# Altium integrated library TI Logic Clock Clock Support.IntLib: 27 symbols
Pins are listed as number, name and electrical type; pins without a type are passive.

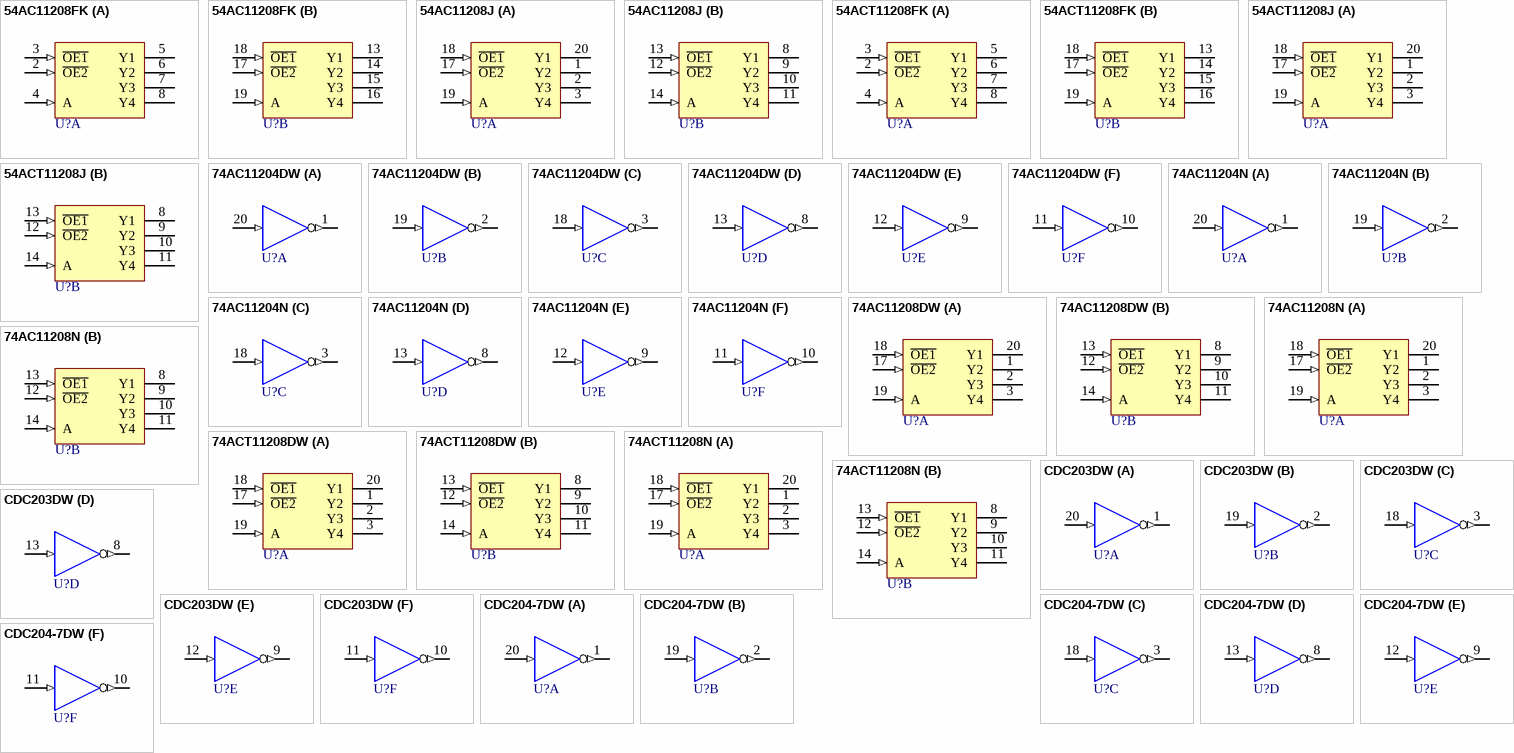
[diagram p0: symbols 54AC11208FK to CDC204-7DW]

## 54AC11208FK
designator U?
Dual 1-Line to 4-Line Clock Driver with 3-State Outputs; Published: 8-Jun-2000; LatestRevisionDate: 17-Jul-2002; LatestRevisionNote: Re-released for DXP Platform.; DatasheetVersion: Mar-1990; PackageVersion: 1998; PackageReference: FK020D; Publisher: Altium Limited; PackageDescription: Leadless Chip Carrier; 20 Terminals; Body 8.9 x 8.9 mm; ComponentLink1Description: Manufacturer Link; ComponentLink1URL: http://www.ti.com/
footprint FK020D (Leadless Chip Carrier; 20 Terminals; Body 8.9 x 8.9 mm)
signal-integrity model 54AC11208FK
pins on every part: 1 VCC (power) hidden to VCC, 9 GND (power) hidden to GND, 10 GND (power) hidden to GND, 11 GND (power) hidden to GND, 12 GND (power) hidden to GND, 20 VCC (power) hidden to VCC
part A pins: 2 ~{OE2} (in), 3 ~{OE1} (in), 4 A (in), 5 Y1 (hiz), 6 Y2 (hiz), 7 Y3 (hiz), 8 Y4 (hiz)
part B pins: 13 Y1 (hiz), 14 Y2 (hiz), 15 Y3 (hiz), 16 Y4 (hiz), 17 ~{OE2} (in), 18 ~{OE1} (in), 19 A (in)

## 54AC11208J
designator U?
Dual 1-Line to 4-Line Clock Driver with 3-State Outputs; Published: 8-Jun-2000; LatestRevisionDate: 06-Jun-2005; LatestRevisionNote: Stylized 3D Model Added.; DatasheetVersion: Mar-1990; PackageVersion: Jun-1999; PackageReference: J020D; Publisher: Altium Limited; PackageDescription: DIP; 20 Leads; Row Spacing 7.62 mm; Pitch 2.54 mm; ComponentLink1Description: Manufacturer Link; ComponentLink1URL: http://www.ti.com/
footprint J020D (DIP; 20 Leads; Row Spacing 7.62 mm; Pitch 2.54 mm)
3D model J020 (DIP; 20 Leads; Row Spacing 7.62 mm; Pitch 2.54 mm)
signal-integrity model 54AC11208J
pins on every part: 4 GND (power) hidden to GND, 5 GND (power) hidden to GND, 6 GND (power) hidden to GND, 7 GND (power) hidden to GND, 15 VCC (power) hidden to VCC, 16 VCC (power) hidden to VCC
part A pins: 1 Y2 (hiz), 2 Y3 (hiz), 3 Y4 (hiz), 17 ~{OE2} (in), 18 ~{OE1} (in), 19 A (in), 20 Y1 (hiz)
part B pins: 8 Y1 (hiz), 9 Y2 (hiz), 10 Y3 (hiz), 11 Y4 (hiz), 12 ~{OE2} (in), 13 ~{OE1} (in), 14 A (in)

## 54ACT11208FK
designator U?
Dual 1-Line to 4-Line Clock Driver with 3-State Outputs; Published: 8-Jun-2000; LatestRevisionDate: 17-Jul-2002; LatestRevisionNote: Re-released for DXP Platform.; DatasheetVersion: Apr-1990; PackageVersion: 1998; PackageReference: FK020D; Publisher: Altium Limited; PackageDescription: Leadless Chip Carrier; 20 Terminals; Body 8.9 x 8.9 mm; ComponentLink1Description: Manufacturer Link; ComponentLink1URL: http://www.ti.com/
footprint FK020D (Leadless Chip Carrier; 20 Terminals; Body 8.9 x 8.9 mm)
signal-integrity model 54ACT11208FK
pins on every part: 1 VCC (power) hidden to VCC, 9 GND (power) hidden to GND, 10 GND (power) hidden to GND, 11 GND (power) hidden to GND, 12 GND (power) hidden to GND, 20 VCC (power) hidden to VCC
part A pins: 2 ~{OE2} (in), 3 ~{OE1} (in), 4 A (in), 5 Y1 (hiz), 6 Y2 (hiz), 7 Y3 (hiz), 8 Y4 (hiz)
part B pins: 13 Y1 (hiz), 14 Y2 (hiz), 15 Y3 (hiz), 16 Y4 (hiz), 17 ~{OE2} (in), 18 ~{OE1} (in), 19 A (in)

## 54ACT11208J
designator U?
Dual 1-Line to 4-Line Clock Driver with 3-State Outputs; Published: 8-Jun-2000; LatestRevisionDate: 06-Jun-2005; LatestRevisionNote: Stylized 3D Model Added.; DatasheetVersion: Apr-1990; PackageVersion: Jun-1999; PackageReference: J020D; Publisher: Altium Limited; PackageDescription: DIP; 20 Leads; Row Spacing 7.62 mm; Pitch 2.54 mm; ComponentLink1Description: Manufacturer Link; ComponentLink1URL: http://www.ti.com/
footprint J020D (DIP; 20 Leads; Row Spacing 7.62 mm; Pitch 2.54 mm)
3D model J020 (DIP; 20 Leads; Row Spacing 7.62 mm; Pitch 2.54 mm)
signal-integrity model 54ACT11208J
pins on every part: 4 GND (power) hidden to GND, 5 GND (power) hidden to GND, 6 GND (power) hidden to GND, 7 GND (power) hidden to GND, 15 VCC (power) hidden to VCC, 16 VCC (power) hidden to VCC
part A pins: 1 Y2 (hiz), 2 Y3 (hiz), 3 Y4 (hiz), 17 ~{OE2} (in), 18 ~{OE1} (in), 19 A (in), 20 Y1 (hiz)
part B pins: 8 Y1 (hiz), 9 Y2 (hiz), 10 Y3 (hiz), 11 Y4 (hiz), 12 ~{OE2} (in), 13 ~{OE1} (in), 14 A (in)

## 74AC11204DW
designator U?
Hex Inverter/Clock Driver; ComponentAvailability: Obsolete; Published: 8-Jun-2000; LatestRevisionDate: 13-Apr-2006; LatestRevisionNote: IPC-7351 Footprint Added.; DatasheetVersion: Oct-1989; PackageVersion: Mar-2000; PackageReference: DW020; Publisher: Altium Limited; PackageDescription: 20-Pin Plastic Small Outline Integrated Circuit 1.27 mm Pitch; Code_JEDEC: MS-013; Code_IPC: SOIC127P1030-20; ComponentLink1Description: Manufacturer Link; ComponentLink1URL: http://www.ti.com/; ComponentLink2Description: Discontinuation Notice; ComponentLink2URL: http://focus.ti.com/docs/prod/folders/print/74ac11204.html
footprint DW020_N (SOIC, 20-Leads, Body 12.8x7.5mm, Pitch 1.27mm, IPC Medium Density)
footprint DW020_L (SOIC, 20-Leads, Body 12.8x7.5mm, Pitch 1.27mm, IPC High Density)
footprint DW020_M (SOIC, 20-Leads, Body 12.8x7.5mm, Pitch 1.27mm, IPC Low Density)
3D model DW020 (20-Pin Plastic Small Outline Integrated Circuit 1.27 mm Pitch)
signal-integrity model 74AC11204DW
pins on every part: 4 GND (power) hidden to GND, 5 GND (power) hidden to GND, 6 GND (power) hidden to GND, 7 GND (power) hidden to GND, 15 VCC (power) hidden to VCC, 16 VCC (power) hidden to VCC
part A pins: 1 Y (out), 20 A (in)
part B pins: 2 Y (out), 19 A (in)
part C pins: 3 Y (out), 18 A (in)
part D pins: 8 Y (out), 13 A (in)
part E pins: 9 Y (out), 12 A (in)
part F pins: 10 Y (out), 11 A (in)

## 74AC11204N
designator U?
Hex Inverter/Clock Driver; ComponentAvailability: Obsolete; Published: 8-Jun-2000; LatestRevisionDate: 06-Jun-2005; LatestRevisionNote: Stylized 3D Model Added.; DatasheetVersion: Oct-1989; PackageVersion: Oct-1995; PackageReference: N020D; Publisher: Altium Limited; PackageDescription: DIP; 20 Leads; Row Spacing 7.62 mm; Pitch 2.54 mm; ComponentLink1Description: Manufacturer Link; ComponentLink1URL: http://www.ti.com/; ComponentLink2Description: Discontinuation Notice; ComponentLink2URL: http://focus.ti.com/docs/prod/folders/print/74ac11204.html
footprint N020D (DIP; 20 Leads; Row Spacing 7.62 mm; Pitch 2.54 mm)
3D model J020 (DIP; 20 Leads; Row Spacing 7.62 mm; Pitch 2.54 mm)
signal-integrity model 74AC11204N
pins on every part: 4 GND (power) hidden to GND, 5 GND (power) hidden to GND, 6 GND (power) hidden to GND, 7 GND (power) hidden to GND, 15 VCC (power) hidden to VCC, 16 VCC (power) hidden to VCC
part A pins: 1 Y (out), 20 A (in)
part B pins: 2 Y (out), 19 A (in)
part C pins: 3 Y (out), 18 A (in)
part D pins: 8 Y (out), 13 A (in)
part E pins: 9 Y (out), 12 A (in)
part F pins: 10 Y (out), 11 A (in)

## 74AC11208DW
designator U?
Dual 1-Line to 4-Line Clock Driver with 3-State Outputs; ComponentAvailability: Obsolete; Published: 8-Jun-2000; LatestRevisionDate: 13-Apr-2006; LatestRevisionNote: IPC-7351 Footprint Added.; DatasheetVersion: Mar-1990; PackageVersion: Mar-2000; PackageReference: DW020; Publisher: Altium Limited; PackageDescription: 20-Pin Plastic Small Outline Integrated Circuit 1.27 mm Pitch; Code_JEDEC: MS-013; Code_IPC: SOIC127P1030-20; ComponentLink1Description: Manufacturer Link; ComponentLink1URL: http://www.ti.com/; ComponentLink2Description: Discontinuation Notice; ComponentLink2URL: http://focus.ti.com/docs/prod/folders/print/74ac11208.html
footprint DW020_N (SOIC, 20-Leads, Body 12.8x7.5mm, Pitch 1.27mm, IPC Medium Density)
footprint DW020_L (SOIC, 20-Leads, Body 12.8x7.5mm, Pitch 1.27mm, IPC High Density)
footprint DW020_M (SOIC, 20-Leads, Body 12.8x7.5mm, Pitch 1.27mm, IPC Low Density)
3D model DW020 (20-Pin Plastic Small Outline Integrated Circuit 1.27 mm Pitch)
signal-integrity model 74AC11208DW
pins on every part: 4 GND (power) hidden to GND, 5 GND (power) hidden to GND, 6 GND (power) hidden to GND, 7 GND (power) hidden to GND, 15 VCC (power) hidden to VCC, 16 VCC (power) hidden to VCC
part A pins: 1 Y2 (hiz), 2 Y3 (hiz), 3 Y4 (hiz), 17 ~{OE2} (in), 18 ~{OE1} (in), 19 A (in), 20 Y1 (hiz)
part B pins: 8 Y1 (hiz), 9 Y2 (hiz), 10 Y3 (hiz), 11 Y4 (hiz), 12 ~{OE2} (in), 13 ~{OE1} (in), 14 A (in)

## 74AC11208N
designator U?
Dual 1-Line to 4-Line Clock Driver with 3-State Outputs; ComponentAvailability: Obsolete; Published: 8-Jun-2000; LatestRevisionDate: 06-Jun-2005; LatestRevisionNote: Stylized 3D Model Added.; DatasheetVersion: Mar-1990; PackageVersion: Oct-1995; PackageReference: N020D; Publisher: Altium Limited; PackageDescription: DIP; 20 Leads; Row Spacing 7.62 mm; Pitch 2.54 mm; ComponentLink1Description: Manufacturer Link; ComponentLink1URL: http://www.ti.com/; ComponentLink2Description: Discontinuation Notice; ComponentLink2URL: http://focus.ti.com/docs/prod/folders/print/74ac11208.html
footprint N020D (DIP; 20 Leads; Row Spacing 7.62 mm; Pitch 2.54 mm)
3D model J020 (DIP; 20 Leads; Row Spacing 7.62 mm; Pitch 2.54 mm)
signal-integrity model 74AC11208N
pins on every part: 4 GND (power) hidden to GND, 5 GND (power) hidden to GND, 6 GND (power) hidden to GND, 7 GND (power) hidden to GND, 15 VCC (power) hidden to VCC, 16 VCC (power) hidden to VCC
part A pins: 1 Y2 (hiz), 2 Y3 (hiz), 3 Y4 (hiz), 17 ~{OE2} (in), 18 ~{OE1} (in), 19 A (in), 20 Y1 (hiz)
part B pins: 8 Y1 (hiz), 9 Y2 (hiz), 10 Y3 (hiz), 11 Y4 (hiz), 12 ~{OE2} (in), 13 ~{OE1} (in), 14 A (in)

## 74ACT11208DW
designator U?
Dual 1-Line to 4-Line Clock Driver with 3-State Outputs; ComponentAvailability: Obsolete; Published: 8-Jun-2000; LatestRevisionDate: 13-Apr-2006; LatestRevisionNote: IPC-7351 Footprint Added.; DatasheetVersion: Apr-1990; PackageVersion: Mar-2000; PackageReference: DW020; Publisher: Altium Limited; PackageDescription: 20-Pin Plastic Small Outline Integrated Circuit 1.27 mm Pitch; Code_JEDEC: MS-013; Code_IPC: SOIC127P1030-20; ComponentLink1Description: Manufacturer Link; ComponentLink1URL: http://www.ti.com/; ComponentLink2Description: Discontinuation Notice; ComponentLink2URL: http://focus.ti.com/docs/prod/folders/print/74act11208.html
footprint DW020_N (SOIC, 20-Leads, Body 12.8x7.5mm, Pitch 1.27mm, IPC Medium Density)
footprint DW020_L (SOIC, 20-Leads, Body 12.8x7.5mm, Pitch 1.27mm, IPC High Density)
footprint DW020_M (SOIC, 20-Leads, Body 12.8x7.5mm, Pitch 1.27mm, IPC Low Density)
3D model DW020 (20-Pin Plastic Small Outline Integrated Circuit 1.27 mm Pitch)
signal-integrity model 74ACT11208DW
pins on every part: 4 GND (power) hidden to GND, 5 GND (power) hidden to GND, 6 GND (power) hidden to GND, 7 GND (power) hidden to GND, 15 VCC (power) hidden to VCC, 16 VCC (power) hidden to VCC
part A pins: 1 Y2 (hiz), 2 Y3 (hiz), 3 Y4 (hiz), 17 ~{OE2} (in), 18 ~{OE1} (in), 19 A (in), 20 Y1 (hiz)
part B pins: 8 Y1 (hiz), 9 Y2 (hiz), 10 Y3 (hiz), 11 Y4 (hiz), 12 ~{OE2} (in), 13 ~{OE1} (in), 14 A (in)

## 74ACT11208N
designator U?
Dual 1-Line to 4-Line Clock Driver with 3-State Outputs; ComponentAvailability: Obsolete; Published: 8-Jun-2000; LatestRevisionDate: 06-Jun-2005; LatestRevisionNote: Stylized 3D Model Added.; DatasheetVersion: Apr-1990; PackageVersion: Oct-1995; PackageReference: N020D; Publisher: Altium Limited; PackageDescription: DIP; 20 Leads; Row Spacing 7.62 mm; Pitch 2.54 mm; ComponentLink1Description: Manufacturer Link; ComponentLink1URL: http://www.ti.com/; ComponentLink2Description: Discontinuation Notice; ComponentLink2URL: http://focus.ti.com/docs/prod/folders/print/74act11208.html
footprint N020D (DIP; 20 Leads; Row Spacing 7.62 mm; Pitch 2.54 mm)
3D model J020 (DIP; 20 Leads; Row Spacing 7.62 mm; Pitch 2.54 mm)
signal-integrity model 74ACT11208N
pins on every part: 4 GND (power) hidden to GND, 5 GND (power) hidden to GND, 6 GND (power) hidden to GND, 7 GND (power) hidden to GND, 15 VCC (power) hidden to VCC, 16 VCC (power) hidden to VCC
part A pins: 1 Y2 (hiz), 2 Y3 (hiz), 3 Y4 (hiz), 17 ~{OE2} (in), 18 ~{OE1} (in), 19 A (in), 20 Y1 (hiz)
part B pins: 8 Y1 (hiz), 9 Y2 (hiz), 10 Y3 (hiz), 11 Y4 (hiz), 12 ~{OE2} (in), 13 ~{OE1} (in), 14 A (in)

## CDC203DW
designator U?
3.3-V Hex Inverter/Clock Driver; Note: Pins 14 and 17 are not connected; Published: 8-Jun-2000; LatestRevisionDate: 13-Apr-2006; LatestRevisionNote: IPC-7351 Footprint Added.; DatasheetVersion: Nov-1995; PackageVersion: Mar-2000; PackageReference: DW020; Publisher: Altium Limited; PackageDescription: 20-Pin Plastic Small Outline Integrated Circuit 1.27 mm Pitch; Code_JEDEC: MS-013; Code_IPC: SOIC127P1030-20; ComponentLink1Description: Manufacturer Link; ComponentLink1URL: http://www.ti.com/; ComponentLink2Description: Datasheet; ComponentLink2URL: http://www-s.ti.com/sc/ds/cdc203.pdf
footprint DW020_N (SOIC, 20-Leads, Body 12.8x7.5mm, Pitch 1.27mm, IPC Medium Density)
footprint DW020_L (SOIC, 20-Leads, Body 12.8x7.5mm, Pitch 1.27mm, IPC High Density)
footprint DW020_M (SOIC, 20-Leads, Body 12.8x7.5mm, Pitch 1.27mm, IPC Low Density)
3D model DW020 (20-Pin Plastic Small Outline Integrated Circuit 1.27 mm Pitch)
pins on every part: 4 GND (power) hidden to GND, 5 GND (power) hidden to GND, 6 GND (power) hidden to GND, 7 GND (power) hidden to GND, 15 VCC (power) hidden to VCC, 16 VCC (power) hidden to VCC
part A pins: 1 Y (out), 20 A (in)
part B pins: 2 Y (out), 19 A (in)
part C pins: 3 Y (out), 18 A (in)
part D pins: 8 Y (out), 13 A (in)
part E pins: 9 Y (out), 12 A (in)
part F pins: 10 Y (out), 11 A (in)

## CDC204-7DW
designator U?
Hex Inverter/Clock Driver; Note: Pins 14 and 17 are not connected; ComponentAvailability: Obsolete; Published: 8-Jun-2000; LatestRevisionDate: 13-Apr-2006; LatestRevisionNote: IPC-7351 Footprint Added.; DatasheetVersion: May-1997; PackageVersion: Mar-2000; PackageReference: DW020; Publisher: Altium Limited; PackageDescription: 20-Pin Plastic Small Outline Integrated Circuit 1.27 mm Pitch; Code_JEDEC: MS-013; Code_IPC: SOIC127P1030-20; ComponentLink1Description: Manufacturer Link; ComponentLink1URL: http://www.ti.com/; ComponentLink2Description: Discontinuation Notice; ComponentLink2URL: http://focus.ti.com/docs/prod/folders/print/cdc204-7.html
footprint DW020_N (SOIC, 20-Leads, Body 12.8x7.5mm, Pitch 1.27mm, IPC Medium Density)
footprint DW020_L (SOIC, 20-Leads, Body 12.8x7.5mm, Pitch 1.27mm, IPC High Density)
footprint DW020_M (SOIC, 20-Leads, Body 12.8x7.5mm, Pitch 1.27mm, IPC Low Density)
3D model DW020 (20-Pin Plastic Small Outline Integrated Circuit 1.27 mm Pitch)
pins on every part: 4 GND (power) hidden to GND, 5 GND (power) hidden to GND, 6 GND (power) hidden to GND, 7 GND (power) hidden to GND, 15 VCC (power) hidden to VCC, 16 VCC (power) hidden to VCC
part A pins: 1 Y (out), 20 A (in)
part B pins: 2 Y (out), 19 A (in)
part C pins: 3 Y (out), 18 A (in)
part D pins: 8 Y (out), 13 A (in)
part E pins: 9 Y (out), 12 A (in)
part F pins: 10 Y (out), 11 A (in)

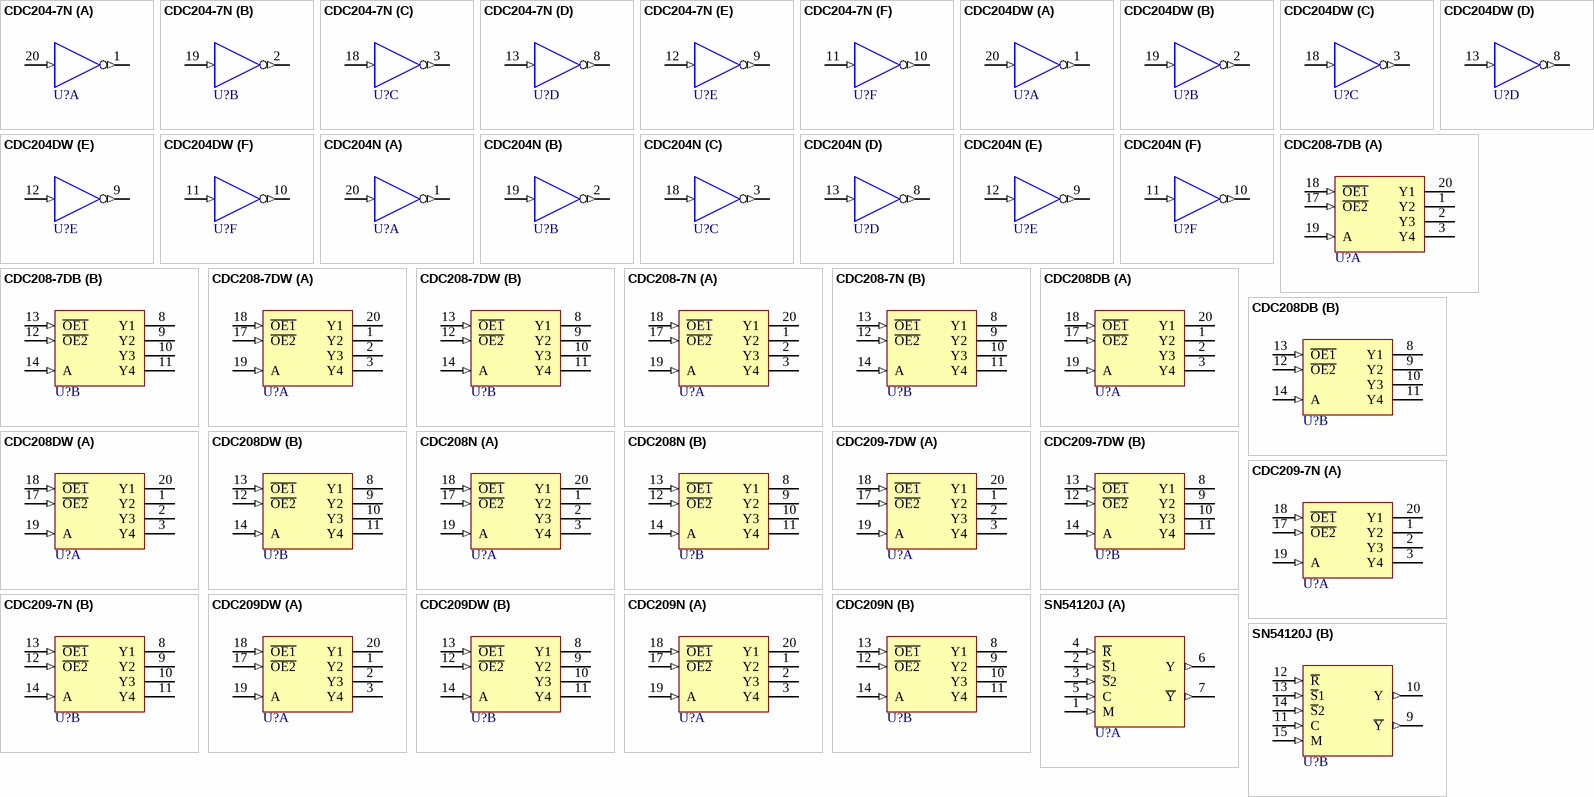
[diagram p1: symbols CDC204-7N to SN54120J]

## CDC204-7N
designator U?
Hex Inverter/Clock Driver; Note: Pins 14 and 17 are not connected; Published: 8-Jun-2000; LatestRevisionDate: 06-Jun-2005; LatestRevisionNote: Stylized 3D Model Added.; DatasheetVersion: May-1997; PackageVersion: Oct-1995; PackageReference: N020C; Publisher: Altium Limited; PackageDescription: DIP; 20 Leads; Row Spacing 7.62 mm; Pitch 2.54 mm; ComponentLink1Description: Manufacturer Link; ComponentLink1URL: http://www.ti.com/
footprint N020C (DIP; 20 Leads; Row Spacing 7.62 mm; Pitch 2.54 mm)
3D model J020 (DIP; 20 Leads; Row Spacing 7.62 mm; Pitch 2.54 mm)
pins on every part: 4 GND (power) hidden to GND, 5 GND (power) hidden to GND, 6 GND (power) hidden to GND, 7 GND (power) hidden to GND, 15 VCC (power) hidden to VCC, 16 VCC (power) hidden to VCC
part A pins: 1 Y (out), 20 A (in)
part B pins: 2 Y (out), 19 A (in)
part C pins: 3 Y (out), 18 A (in)
part D pins: 8 Y (out), 13 A (in)
part E pins: 9 Y (out), 12 A (in)
part F pins: 10 Y (out), 11 A (in)

## CDC204DW
designator U?
Hex Inverter/Clock Driver; Note: Pins 14 and 17 are not connected; Published: 8-Jun-2000; LatestRevisionDate: 13-Apr-2006; LatestRevisionNote: IPC-7351 Footprint Added.; DatasheetVersion: May-1997; PackageVersion: Mar-2000; PackageReference: DW020; Publisher: Altium Limited; PackageDescription: 20-Pin Plastic Small Outline Integrated Circuit 1.27 mm Pitch; Code_JEDEC: MS-013; Code_IPC: SOIC127P1030-20; ComponentLink1Description: Manufacturer Link; ComponentLink1URL: http://www.ti.com/; ComponentLink2Description: Datasheet; ComponentLink2URL: http://www-s.ti.com/sc/ds/cdc204.pdf
footprint DW020_N (SOIC, 20-Leads, Body 12.8x7.5mm, Pitch 1.27mm, IPC Medium Density)
footprint DW020_L (SOIC, 20-Leads, Body 12.8x7.5mm, Pitch 1.27mm, IPC High Density)
footprint DW020_M (SOIC, 20-Leads, Body 12.8x7.5mm, Pitch 1.27mm, IPC Low Density)
3D model DW020 (20-Pin Plastic Small Outline Integrated Circuit 1.27 mm Pitch)
pins on every part: 4 GND (power) hidden to GND, 5 GND (power) hidden to GND, 6 GND (power) hidden to GND, 7 GND (power) hidden to GND, 15 VCC (power) hidden to VCC, 16 VCC (power) hidden to VCC
part A pins: 1 Y (out), 20 A (in)
part B pins: 2 Y (out), 19 A (in)
part C pins: 3 Y (out), 18 A (in)
part D pins: 8 Y (out), 13 A (in)
part E pins: 9 Y (out), 12 A (in)
part F pins: 10 Y (out), 11 A (in)

## CDC204N
designator U?
Hex Inverter/Clock Driver; Note: Pins 14 and 17 are not connected; ComponentAvailability: Obsolete; Published: 8-Jun-2000; LatestRevisionDate: 06-Jun-2005; LatestRevisionNote: Stylized 3D Model Added.; DatasheetVersion: May-1997; PackageVersion: Oct-1995; PackageReference: N020C; Publisher: Altium Limited; PackageDescription: DIP; 20 Leads; Row Spacing 7.62 mm; Pitch 2.54 mm; ComponentLink1Description: Manufacturer Link; ComponentLink1URL: http://www.ti.com/; ComponentLink2Description: Datasheet; ComponentLink2URL: http://www-s.ti.com/sc/ds/cdc204.pdf
footprint N020C (DIP; 20 Leads; Row Spacing 7.62 mm; Pitch 2.54 mm)
3D model J020 (DIP; 20 Leads; Row Spacing 7.62 mm; Pitch 2.54 mm)
pins on every part: 4 GND (power) hidden to GND, 5 GND (power) hidden to GND, 6 GND (power) hidden to GND, 7 GND (power) hidden to GND, 15 VCC (power) hidden to VCC, 16 VCC (power) hidden to VCC
part A pins: 1 Y (out), 20 A (in)
part B pins: 2 Y (out), 19 A (in)
part C pins: 3 Y (out), 18 A (in)
part D pins: 8 Y (out), 13 A (in)
part E pins: 9 Y (out), 12 A (in)
part F pins: 10 Y (out), 11 A (in)

## CDC208-7DB
designator U?
Dual 1-Line to 4-Line Clock Driver with 3-State Outputs; Published: 8-Jun-2000; LatestRevisionDate: 06-Jun-2005; LatestRevisionNote: Stylized 3D Model Added.; DatasheetVersion: May-1997; PackageVersion: May-1999; PackageReference: DB020; Publisher: Altium Limited; PackageDescription: SSOP, Plastic; 20 Leads; Body Width 5.3 mm; Pitch 0.65 mm; Code_JEDEC: MO-150-AE; ComponentLink1Description: Manufacturer Link; ComponentLink1URL: http://www.ti.com/
footprint DB020 (SSOP, Plastic; 20 Leads; Body Width 5.3 mm; Pitch 0.65 mm)
3D model DB020 (SSOP, Plastic; 20 Leads; Body Width 5.3 mm; Pitch 0.65 mm)
pins on every part: 4 GND (power) hidden to GND, 5 GND (power) hidden to GND, 6 GND (power) hidden to GND, 7 GND (power) hidden to GND, 15 VCC (power) hidden to VCC, 16 VCC (power) hidden to VCC
part A pins: 1 Y2 (hiz), 2 Y3 (hiz), 3 Y4 (hiz), 17 ~{OE2} (in), 18 ~{OE1} (in), 19 A (in), 20 Y1 (hiz)
part B pins: 8 Y1 (hiz), 9 Y2 (hiz), 10 Y3 (hiz), 11 Y4 (hiz), 12 ~{OE2} (in), 13 ~{OE1} (in), 14 A (in)

## CDC208-7DW
designator U?
Dual 1-Line to 4-Line Clock Driver with 3-State Outputs; ComponentAvailability: Obsolete; Published: 8-Jun-2000; LatestRevisionDate: 13-Apr-2006; LatestRevisionNote: IPC-7351 Footprint Added.; DatasheetVersion: May-1997; PackageVersion: Mar-2000; PackageReference: DW020; Publisher: Altium Limited; PackageDescription: 20-Pin Plastic Small Outline Integrated Circuit 1.27 mm Pitch; Code_JEDEC: MS-013; Code_IPC: SOIC127P1030-20; ComponentLink1Description: Manufacturer Link; ComponentLink1URL: http://www.ti.com/; ComponentLink2Description: Discontinuation Notice; ComponentLink2URL: http://focus.ti.com/docs/prod/folders/print/cdc208-7.html
footprint DW020_N (SOIC, 20-Leads, Body 12.8x7.5mm, Pitch 1.27mm, IPC Medium Density)
footprint DW020_L (SOIC, 20-Leads, Body 12.8x7.5mm, Pitch 1.27mm, IPC High Density)
footprint DW020_M (SOIC, 20-Leads, Body 12.8x7.5mm, Pitch 1.27mm, IPC Low Density)
3D model DW020 (20-Pin Plastic Small Outline Integrated Circuit 1.27 mm Pitch)
pins on every part: 4 GND (power) hidden to GND, 5 GND (power) hidden to GND, 6 GND (power) hidden to GND, 7 GND (power) hidden to GND, 15 VCC (power) hidden to VCC, 16 VCC (power) hidden to VCC
part A pins: 1 Y2 (hiz), 2 Y3 (hiz), 3 Y4 (hiz), 17 ~{OE2} (in), 18 ~{OE1} (in), 19 A (in), 20 Y1 (hiz)
part B pins: 8 Y1 (hiz), 9 Y2 (hiz), 10 Y3 (hiz), 11 Y4 (hiz), 12 ~{OE2} (in), 13 ~{OE1} (in), 14 A (in)

## CDC208-7N
designator U?
Dual 1-Line to 4-Line Clock Driver with 3-State Outputs; Published: 8-Jun-2000; LatestRevisionDate: 06-Jun-2005; LatestRevisionNote: Stylized 3D Model Added.; DatasheetVersion: May-1997; PackageVersion: Oct-1995; PackageReference: N020C; Publisher: Altium Limited; PackageDescription: DIP; 20 Leads; Row Spacing 7.62 mm; Pitch 2.54 mm; ComponentLink1Description: Manufacturer Link; ComponentLink1URL: http://www.ti.com/
footprint N020C (DIP; 20 Leads; Row Spacing 7.62 mm; Pitch 2.54 mm)
3D model J020 (DIP; 20 Leads; Row Spacing 7.62 mm; Pitch 2.54 mm)
pins on every part: 4 GND (power) hidden to GND, 5 GND (power) hidden to GND, 6 GND (power) hidden to GND, 7 GND (power) hidden to GND, 15 VCC (power) hidden to VCC, 16 VCC (power) hidden to VCC
part A pins: 1 Y2 (hiz), 2 Y3 (hiz), 3 Y4 (hiz), 17 ~{OE2} (in), 18 ~{OE1} (in), 19 A (in), 20 Y1 (hiz)
part B pins: 8 Y1 (hiz), 9 Y2 (hiz), 10 Y3 (hiz), 11 Y4 (hiz), 12 ~{OE2} (in), 13 ~{OE1} (in), 14 A (in)

## CDC208DB
designator U?
Dual 1-Line to 4-Line Clock Driver with 3-State Outputs; Published: 8-Jun-2000; LatestRevisionDate: 06-Jun-2005; LatestRevisionNote: Stylized 3D Model Added.; DatasheetVersion: May-1997; PackageVersion: May-1999; PackageReference: DB020; Publisher: Altium Limited; PackageDescription: SSOP, Plastic; 20 Leads; Body Width 5.3 mm; Pitch 0.65 mm; Code_JEDEC: MO-150-AE; ComponentLink1Description: Manufacturer Link; ComponentLink1URL: http://www.ti.com/; ComponentLink2Description: Datasheet; ComponentLink2URL: http://www-s.ti.com/sc/ds/cdc208.pdf
footprint DB020 (SSOP, Plastic; 20 Leads; Body Width 5.3 mm; Pitch 0.65 mm)
3D model DB020 (SSOP, Plastic; 20 Leads; Body Width 5.3 mm; Pitch 0.65 mm)
pins on every part: 4 GND (power) hidden to GND, 5 GND (power) hidden to GND, 6 GND (power) hidden to GND, 7 GND (power) hidden to GND, 15 VCC (power) hidden to VCC, 16 VCC (power) hidden to VCC
part A pins: 1 Y2 (hiz), 2 Y3 (hiz), 3 Y4 (hiz), 17 ~{OE2} (in), 18 ~{OE1} (in), 19 A (in), 20 Y1 (hiz)
part B pins: 8 Y1 (hiz), 9 Y2 (hiz), 10 Y3 (hiz), 11 Y4 (hiz), 12 ~{OE2} (in), 13 ~{OE1} (in), 14 A (in)

## CDC208DW
designator U?
Dual 1-Line to 4-Line Clock Driver with 3-State Outputs; Published: 8-Jun-2000; LatestRevisionDate: 13-Apr-2006; LatestRevisionNote: IPC-7351 Footprint Added.; DatasheetVersion: May-1997; PackageVersion: Mar-2000; PackageReference: DW020; Publisher: Altium Limited; PackageDescription: 20-Pin Plastic Small Outline Integrated Circuit 1.27 mm Pitch; Code_JEDEC: MS-013; Code_IPC: SOIC127P1030-20; ComponentLink1Description: Manufacturer Link; ComponentLink1URL: http://www.ti.com/; ComponentLink2Description: Datasheet; ComponentLink2URL: http://www-s.ti.com/sc/ds/cdc208.pdf
footprint DW020_N (SOIC, 20-Leads, Body 12.8x7.5mm, Pitch 1.27mm, IPC Medium Density)
footprint DW020_L (SOIC, 20-Leads, Body 12.8x7.5mm, Pitch 1.27mm, IPC High Density)
footprint DW020_M (SOIC, 20-Leads, Body 12.8x7.5mm, Pitch 1.27mm, IPC Low Density)
3D model DW020 (20-Pin Plastic Small Outline Integrated Circuit 1.27 mm Pitch)
pins on every part: 4 GND (power) hidden to GND, 5 GND (power) hidden to GND, 6 GND (power) hidden to GND, 7 GND (power) hidden to GND, 15 VCC (power) hidden to VCC, 16 VCC (power) hidden to VCC
part A pins: 1 Y2 (hiz), 2 Y3 (hiz), 3 Y4 (hiz), 17 ~{OE2} (in), 18 ~{OE1} (in), 19 A (in), 20 Y1 (hiz)
part B pins: 8 Y1 (hiz), 9 Y2 (hiz), 10 Y3 (hiz), 11 Y4 (hiz), 12 ~{OE2} (in), 13 ~{OE1} (in), 14 A (in)

## CDC208N
designator U?
Dual 1-Line to 4-Line Clock Driver with 3-State Outputs; ComponentAvailability: Obsolete; Published: 8-Jun-2000; LatestRevisionDate: 06-Jun-2005; LatestRevisionNote: Stylized 3D Model Added.; DatasheetVersion: May-1997; PackageVersion: Oct-1995; PackageReference: N020C; Publisher: Altium Limited; PackageDescription: DIP; 20 Leads; Row Spacing 7.62 mm; Pitch 2.54 mm; ComponentLink1Description: Manufacturer Link; ComponentLink1URL: http://www.ti.com/; ComponentLink2Description: Datasheet; ComponentLink2URL: http://www-s.ti.com/sc/ds/cdc208.pdf
footprint N020C (DIP; 20 Leads; Row Spacing 7.62 mm; Pitch 2.54 mm)
3D model J020 (DIP; 20 Leads; Row Spacing 7.62 mm; Pitch 2.54 mm)
pins on every part: 4 GND (power) hidden to GND, 5 GND (power) hidden to GND, 6 GND (power) hidden to GND, 7 GND (power) hidden to GND, 15 VCC (power) hidden to VCC, 16 VCC (power) hidden to VCC
part A pins: 1 Y2 (hiz), 2 Y3 (hiz), 3 Y4 (hiz), 17 ~{OE2} (in), 18 ~{OE1} (in), 19 A (in), 20 Y1 (hiz)
part B pins: 8 Y1 (hiz), 9 Y2 (hiz), 10 Y3 (hiz), 11 Y4 (hiz), 12 ~{OE2} (in), 13 ~{OE1} (in), 14 A (in)

## CDC209-7DW
designator U?
Dual 1-Line to 4-Line Clock Driver with 3-State Outputs; ComponentAvailability: Obsolete; Published: 8-Jun-2000; LatestRevisionDate: 13-Apr-2006; LatestRevisionNote: IPC-7351 Footprint Added.; DatasheetVersion: May-1997; PackageVersion: Mar-2000; PackageReference: DW020; Publisher: Altium Limited; PackageDescription: 20-Pin Plastic Small Outline Integrated Circuit 1.27 mm Pitch; Code_JEDEC: MS-013; Code_IPC: SOIC127P1030-20; ComponentLink1Description: Manufacturer Link; ComponentLink1URL: http://www.ti.com/; ComponentLink2Description: Datasheet; ComponentLink2URL: http://www-s.ti.com/sc/ds/cdc209-7.pdf
footprint DW020_N (SOIC, 20-Leads, Body 12.8x7.5mm, Pitch 1.27mm, IPC Medium Density)
footprint DW020_L (SOIC, 20-Leads, Body 12.8x7.5mm, Pitch 1.27mm, IPC High Density)
footprint DW020_M (SOIC, 20-Leads, Body 12.8x7.5mm, Pitch 1.27mm, IPC Low Density)
3D model DW020 (20-Pin Plastic Small Outline Integrated Circuit 1.27 mm Pitch)
pins on every part: 4 GND (power) hidden to GND, 5 GND (power) hidden to GND, 6 GND (power) hidden to GND, 7 GND (power) hidden to GND, 15 VCC (power) hidden to VCC, 16 VCC (power) hidden to VCC
part A pins: 1 Y2 (hiz), 2 Y3 (hiz), 3 Y4 (hiz), 17 ~{OE2} (in), 18 ~{OE1} (in), 19 A (in), 20 Y1 (hiz)
part B pins: 8 Y1 (hiz), 9 Y2 (hiz), 10 Y3 (hiz), 11 Y4 (hiz), 12 ~{OE2} (in), 13 ~{OE1} (in), 14 A (in)

## CDC209-7N
designator U?
Dual 1-Line to 4-Line Clock Driver with 3-State Outputs; Published: 8-Jun-2000; LatestRevisionDate: 06-Jun-2005; LatestRevisionNote: Stylized 3D Model Added.; DatasheetVersion: May-1997; PackageVersion: Oct-1995; PackageReference: N020C; Publisher: Altium Limited; PackageDescription: DIP; 20 Leads; Row Spacing 7.62 mm; Pitch 2.54 mm; ComponentLink1Description: Manufacturer Link; ComponentLink1URL: http://www.ti.com/
footprint N020C (DIP; 20 Leads; Row Spacing 7.62 mm; Pitch 2.54 mm)
3D model J020 (DIP; 20 Leads; Row Spacing 7.62 mm; Pitch 2.54 mm)
pins on every part: 4 GND (power) hidden to GND, 5 GND (power) hidden to GND, 6 GND (power) hidden to GND, 7 GND (power) hidden to GND, 15 VCC (power) hidden to VCC, 16 VCC (power) hidden to VCC
part A pins: 1 Y2 (hiz), 2 Y3 (hiz), 3 Y4 (hiz), 17 ~{OE2} (in), 18 ~{OE1} (in), 19 A (in), 20 Y1 (hiz)
part B pins: 8 Y1 (hiz), 9 Y2 (hiz), 10 Y3 (hiz), 11 Y4 (hiz), 12 ~{OE2} (in), 13 ~{OE1} (in), 14 A (in)

## CDC209DW
designator U?
Dual 1-Line to 4-Line Clock Driver with 3-State Outputs; ComponentAvailability: Obsolete; Published: 8-Jun-2000; LatestRevisionDate: 13-Apr-2006; LatestRevisionNote: IPC-7351 Footprint Added.; DatasheetVersion: May-1997; PackageVersion: Mar-2000; PackageReference: DW020; Publisher: Altium Limited; PackageDescription: 20-Pin Plastic Small Outline Integrated Circuit 1.27 mm Pitch; Code_JEDEC: MS-013; Code_IPC: SOIC127P1030-20; ComponentLink1Description: Manufacturer Link; ComponentLink1URL: http://www.ti.com/; ComponentLink2Description: Datasheet; ComponentLink2URL: http://www-s.ti.com/sc/ds/cdc209.pdf
footprint DW020_N (SOIC, 20-Leads, Body 12.8x7.5mm, Pitch 1.27mm, IPC Medium Density)
footprint DW020_L (SOIC, 20-Leads, Body 12.8x7.5mm, Pitch 1.27mm, IPC High Density)
footprint DW020_M (SOIC, 20-Leads, Body 12.8x7.5mm, Pitch 1.27mm, IPC Low Density)
3D model DW020 (20-Pin Plastic Small Outline Integrated Circuit 1.27 mm Pitch)
pins on every part: 4 GND (power) hidden to GND, 5 GND (power) hidden to GND, 6 GND (power) hidden to GND, 7 GND (power) hidden to GND, 15 VCC (power) hidden to VCC, 16 VCC (power) hidden to VCC
part A pins: 1 Y2 (hiz), 2 Y3 (hiz), 3 Y4 (hiz), 17 ~{OE2} (in), 18 ~{OE1} (in), 19 A (in), 20 Y1 (hiz)
part B pins: 8 Y1 (hiz), 9 Y2 (hiz), 10 Y3 (hiz), 11 Y4 (hiz), 12 ~{OE2} (in), 13 ~{OE1} (in), 14 A (in)

## CDC209N
designator U?
Dual 1-Line to 4-Line Clock Driver with 3-State Outputs; ComponentAvailability: Obsolete; Published: 8-Jun-2000; LatestRevisionDate: 06-Jun-2005; LatestRevisionNote: Stylized 3D Model Added.; DatasheetVersion: May-1997; PackageVersion: Oct-1995; PackageReference: N020C; Publisher: Altium Limited; PackageDescription: DIP; 20 Leads; Row Spacing 7.62 mm; Pitch 2.54 mm; ComponentLink1Description: Manufacturer Link; ComponentLink1URL: http://www.ti.com/; ComponentLink2Description: Datasheet; ComponentLink2URL: http://www-s.ti.com/sc/ds/cdc209.pdf
footprint N020C (DIP; 20 Leads; Row Spacing 7.62 mm; Pitch 2.54 mm)
3D model J020 (DIP; 20 Leads; Row Spacing 7.62 mm; Pitch 2.54 mm)
pins on every part: 4 GND (power) hidden to GND, 5 GND (power) hidden to GND, 6 GND (power) hidden to GND, 7 GND (power) hidden to GND, 15 VCC (power) hidden to VCC, 16 VCC (power) hidden to VCC
part A pins: 1 Y2 (hiz), 2 Y3 (hiz), 3 Y4 (hiz), 17 ~{OE2} (in), 18 ~{OE1} (in), 19 A (in), 20 Y1 (hiz)
part B pins: 8 Y1 (hiz), 9 Y2 (hiz), 10 Y3 (hiz), 11 Y4 (hiz), 12 ~{OE2} (in), 13 ~{OE1} (in), 14 A (in)

## SN54120J
designator U?
Dual Pulse Synchronizer / Driver; Published: 8-Jun-2000; LatestRevisionDate: 06-Jun-2005; LatestRevisionNote: Stylized 3D Model Added.; DatasheetVersion: Mar-1988; PackageVersion: Jun-1999; PackageReference: J016; Publisher: Altium Limited; PackageDescription: DIP; 16 Leads; Row Spacing 7.62 mm; Pitch 2.54 mm; ComponentLink1Description: Manufacturer Link; ComponentLink1URL: http://www.ti.com/; ComponentLink2Description: Datasheet; ComponentLink2URL: http://www-s.ti.com/sc/ds/sn74120.pdf
footprint J016 (DIP; 16 Leads; Row Spacing 7.62 mm; Pitch 2.54 mm)
3D model J016 (DIP; 16 Leads; Row Spacing 7.62 mm; Pitch 2.54 mm)
signal-integrity model SN54120J
pins on every part: 8 GND (power) hidden to GND, 16 VCC (power) hidden to VCC
part A pins: 1 M (in), 2 ~{S}1 (in), 3 ~{S}2 (in), 4 ~{R} (in), 5 C (in), 6 Y (out), 7 ~{Y} (out)
part B pins: 9 ~{Y} (out), 10 Y (out), 11 C (in), 12 ~{R} (in), 13 ~{S}1 (in), 14 ~{S}2 (in), 15 M (in)

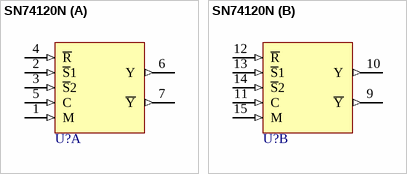
[diagram p2: symbol SN74120N]

## SN74120N
designator U?
Dual Pulse Synchronizer / Driver; ComponentAvailability: Obsolete; Published: 8-Jun-2000; LatestRevisionDate: 06-Jun-2005; LatestRevisionNote: Stylized 3D Model Added.; DatasheetVersion: Mar-1988; PackageVersion: Oct-1995; PackageReference: N016; Publisher: Altium Limited; PackageDescription: DIP; 16 Leads; Row Spacing 7.62 mm; Pitch 2.54 mm; Code_JEDEC: MS-001-BB; ComponentLink1Description: Manufacturer Link; ComponentLink1URL: http://www.ti.com/; ComponentLink2Description: Datasheet; ComponentLink2URL: http://www-s.ti.com/sc/ds/sn74120.pdf; ComponentLink3Description: Discontinuation Notice; ComponentLink3URL: http://focus.ti.com/docs/prod/folders/print/sn74120.html
footprint N016 (DIP; 16 Leads; Row Spacing 7.62 mm; Pitch 2.54 mm)
3D model N016 (DIP; 16 Leads; Row Spacing 7.62 mm; Pitch 2.54 mm)
signal-integrity model SN74120N
pins on every part: 8 GND (power) hidden to GND, 16 VCC (power) hidden to VCC
part A pins: 1 M (in), 2 ~{S}1 (in), 3 ~{S}2 (in), 4 ~{R} (in), 5 C (in), 6 Y (out), 7 ~{Y} (out)
part B pins: 9 ~{Y} (out), 10 Y (out), 11 C (in), 12 ~{R} (in), 13 ~{S}1 (in), 14 ~{S}2 (in), 15 M (in)